# Altium schematic symbol library TRANS_PMOS_STL42P6LLF6_1.Schlib: 1 symbol
Pins are listed as number, name and electrical type; pins without a type are passive.

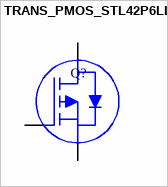
[diagram p0: symbol TRANS_PMOS_STL42P6LLF6]

## TRANS_PMOS_STL42P6LLF6
designator Q?
P-channel -60 V, 23 mΩ typ., -42 A STripFET™ F6; Manufacturer: Vishay Siliconix
footprint STL42P6LLF6
pins: 1 S, 4 S, 5 D
2 alternate drawings of the same symbol